# EAGLE library part VIPER53ESPTR-E (library VIPER53ESPTR-E)
Fixed frequency off line converter Source: Datasheet <https://www.st.com/resource/en/datasheet/viper53e-e.pdf>
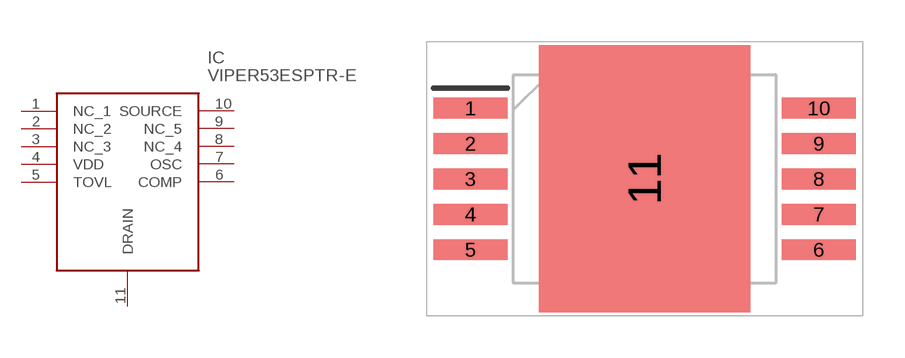
[diagram p0: symbol with the pads of SOIC127P1410X375-11N; footprint SOIC127P1410X375-11N]

Designator prefix IC

## VIPER53ESPTR-E (Description: Fixed frequency off line converter; Height: 3.75mm; Manufacturer_Name: STMicroelectronics; Manufacturer_Part_Number: VIPER53ESPTR-E; Mouser_Part_Number: 511-VIPER53ESPTR-E; Mouser_Price-Stock: https://www.mouser.co.uk/ProductDetail/STMicroelectronics/VIPER53ESPTR-E?qs=iRhCjdSJZe521KUeAZZD8w%3D%3D)  [SOIC127P1410X375-11N]
1  NC_1
2  NC_2
3  NC_3
4  VDD
5  TOVL
6  COMP
7  OSC
8  NC_4
9  NC_5
10  SOURCE
11  DRAIN

## Footprint SOIC127P1410X375-11N (pad centres in mm)
PowerSO-10_1_2022
smd 2.65 x 0.75: 1 -6.25,2.54; 2 -6.25,1.27; 3 -6.25,0; 4 -6.25,-1.27; 5 -6.25,-2.54; 6 6.25,-2.54; 7 6.25,-1.27; 8 6.25,0; 9 6.25,1.27; 10 6.25,2.54
smd 7.6 x 9.6: 11 0,0